# Altium footprint library IC_Packages.PcbLib: 10 footprints
Each footprint in its own frame and in the unit in brackets; x right, y up, seen from the top. Pads: shape width x height; smd on the part's side, far side on the other; paste and mask are expansions set on the pad; w line width, h text height; cw(c..) or ccw(c..) is an arc to the next point about the centre after c.
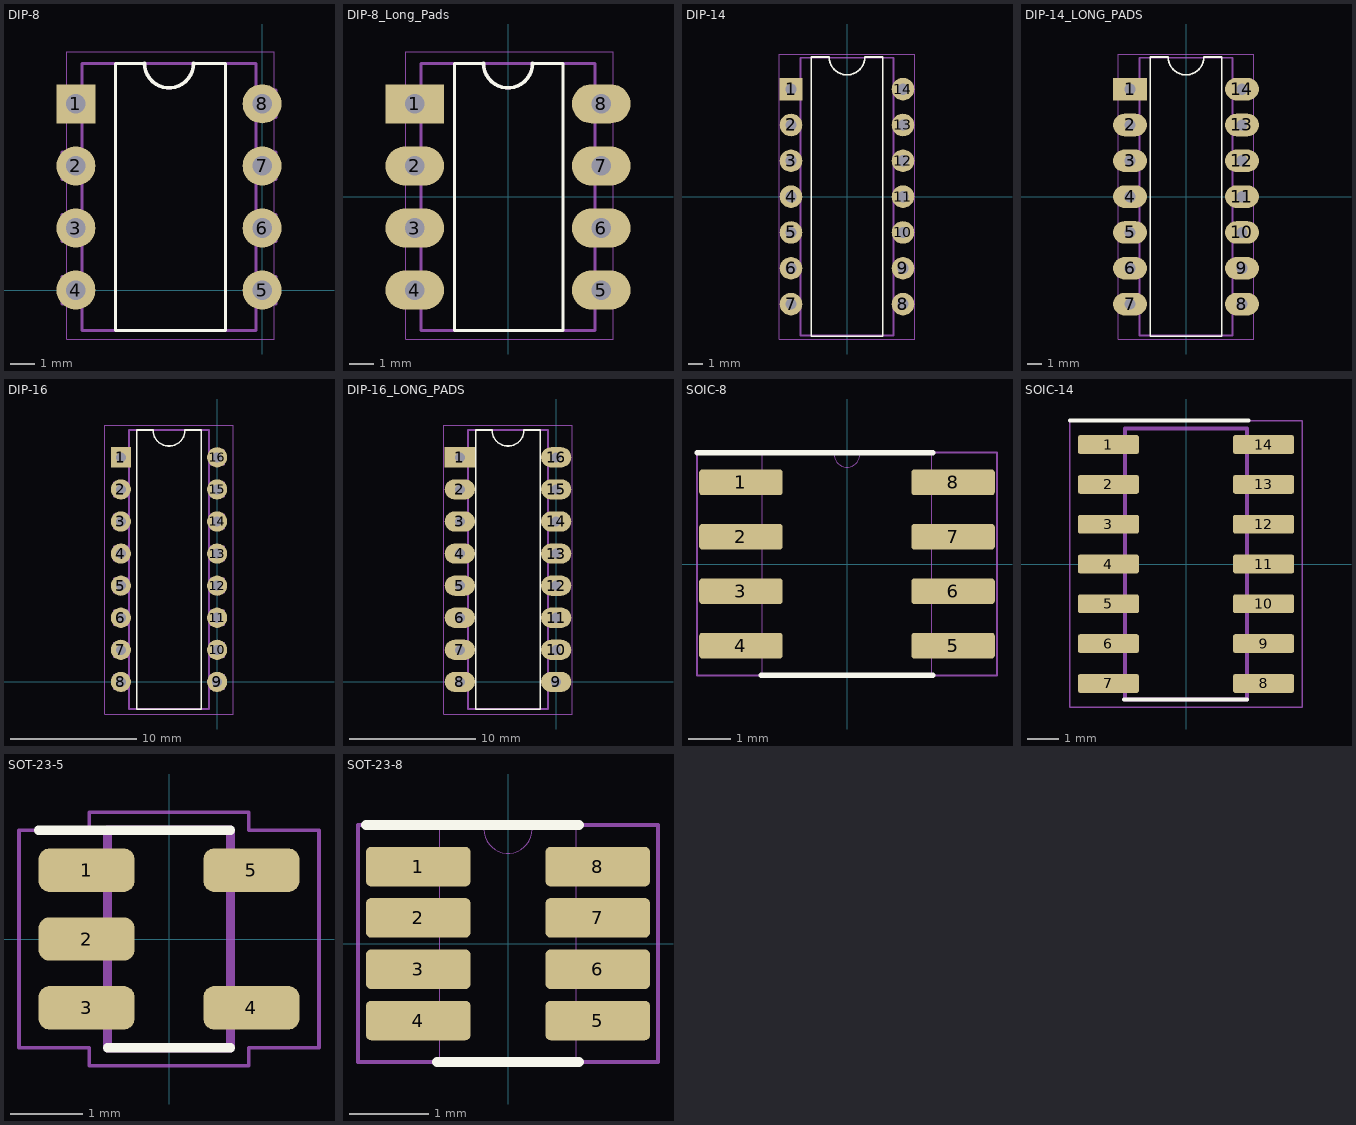
[diagram p0: the footprints below, top view; thin cyan lines are the x and y axes]

## DIP-8 [mm]
pads (8):
  rect 1.6x1.6 hole 0.8: 1(-7.62,7.62)
  round 1.6 hole 0.8: 2(-7.62,5.08) 3(-7.62,2.54) 4(-7.62,0) 5(0,0) 6(0,2.54) 7(0,5.08) 8(0,7.62)
Top Overlay:
  lines w0.127: -4.81,9.271 -6,9.271 -6,-1.651 -1.5,-1.651 -1.5,9.271 -2.81,9.271
  lines w0.152: -4.81,9.271 ccw(c-3.81,9.271) -2.81,9.271
Mechanical 13:
  lines w0.127: -4.81,9.271 ccw(c-3.81,9.271) -2.81,9.271 ; -8.179,-0.559 -7.366,-0.559 -7.366,0.559 -8.179,0.559 -8.179,-0.559 ; -8.179,1.981 -7.366,1.981 -7.366,3.099 -8.179,3.099 -8.179,1.981 ; -8.179,4.521 -7.366,4.521 -7.366,5.639 -8.179,5.639 -8.179,4.521 ; -8.179,7.061 -7.366,7.061 -7.366,8.179 -8.179,8.179 -8.179,7.061 ; -7.366,-1.651 -7.366,9.271 -4.115,9.271 -3.505,9.271 -0.254,9.271 -0.254,-1.651 -7.366,-1.651 ; -0.254,-0.559 0.559,-0.559 0.559,0.559 -0.254,0.559 -0.254,-0.559 ; -0.254,1.981 0.559,1.981 0.559,3.099 -0.254,3.099 -0.254,1.981 ; -0.254,4.521 0.559,4.521 0.559,5.639 -0.254,5.639 -0.254,4.521 ; -0.254,7.061 0.559,7.061 0.559,8.179 -0.254,8.179 -0.254,7.061
Border:
  lines w0.05: -8,-2 0.5,-2 0.5,9.75 -8,9.75 -8,-2
3D body "CircuitWorks-DIP8.step": height 4.19, standoff -2.67, extent -7.747,-1.905 0.127,9.525

## DIP-8_Long_Pads [mm]
pads (8):
  rect 2.4x1.6 hole 0.8: 1(-3.81,3.81)
  oval 2.4x1.6 hole 0.8: 2(-3.81,1.27) 3(-3.81,-1.27) 4(-3.81,-3.81) 5(3.81,-3.81) 6(3.81,-1.27) 7(3.81,1.27) 8(3.81,3.81)
Top Overlay:
  lines w0.127: -1,5.461 -2.19,5.461 -2.19,-5.461 2.25,-5.461 2.25,5.461 1,5.461
  lines w0.152: -1,5.461 ccw(c0,5.461) 1,5.461
Mechanical 13:
  lines w0.127: -1,5.461 ccw(c0,5.461) 1,5.461 ; -4.369,-4.369 -4.369,-3.251 -3.556,-3.251 -3.556,-4.369 -4.369,-4.369 ; -4.369,-1.829 -4.369,-0.711 -3.556,-0.711 -3.556,-1.829 -4.369,-1.829 ; -4.369,0.711 -4.369,1.829 -3.556,1.829 -3.556,0.711 -4.369,0.711 ; -4.369,3.251 -4.369,4.369 -3.556,4.369 -3.556,3.251 -4.369,3.251 ; -3.556,-5.461 3.556,-5.461 3.556,5.461 0.305,5.461 -0.305,5.461 -3.556,5.461 -3.556,-5.461 ; 3.556,-4.369 3.556,-3.251 4.369,-3.251 4.369,-4.369 3.556,-4.369 ; 3.556,-1.829 3.556,-0.711 4.369,-0.711 4.369,-1.829 3.556,-1.829 ; 3.556,0.711 3.556,1.829 4.369,1.829 4.369,0.711 3.556,0.711 ; 3.556,3.251 3.556,4.369 4.369,4.369 4.369,3.251 3.556,3.251
Border:
  lines w0.05: -4.19,-5.81 -4.19,5.94 4.31,5.94 4.31,-5.81 -4.19,-5.81
3D body "CircuitWorks-DIP8.step": height 4.19, standoff -2.67, extent -3.937,-5.715 3.937,5.715

## DIP-14 [mm]
pads (14):
  rect 1.6x1.6 hole 0.8: 1(-3.97,7.62)
  round 1.6 hole 0.8: 2(-3.97,5.08) 3(-3.97,2.54) 4(-3.97,0) 5(-3.97,-2.54) 6(-3.97,-5.08) 7(-3.97,-7.62) 8(3.97,-7.62) 9(3.97,-5.08) 10(3.97,-2.54) 11(3.97,0) 12(3.97,2.54) 13(3.97,5.08) 14(3.97,7.62)
Top Overlay:
  lines w0.127: -2.54,-9.906 2.54,-9.906 2.54,9.906 1.27,9.906 cw(c0,9.906) -1.27,9.906 -2.54,9.906 -2.54,-9.906
Mechanical 13:
  lines w0.127: -3.3,-9.845 -3.3,9.845 3.3,9.845 3.3,-9.845 -3.3,-9.845
Border:
  lines w0.05: -4.805,-10.095 4.805,-10.095 4.805,10.095 -4.805,10.095 -4.805,-10.095
3D body "CircuitWorks-DIP-14.step": height 3.51, standoff -3.47, extent -4,-9.525 4,9.525

## DIP-14_LONG_PADS [mm]
pads (14):
  rect 2.4x1.6 hole 0.8: 1(-3.97,7.62)
  oval 2.4x1.6 hole 0.8: 2(-3.97,5.08) 3(-3.97,2.54) 4(-3.97,0) 5(-3.97,-2.54) 6(-3.97,-5.08) 7(-3.97,-7.62) 8(3.97,-7.62) 9(3.97,-5.08) 10(3.97,-2.54) 11(3.97,0) 12(3.97,2.54) 13(3.97,5.08) 14(3.97,7.62)
Top Overlay:
  lines w0.127: -2.54,-9.906 2.54,-9.906 2.54,9.906 1.27,9.906 cw(c0,9.906) -1.27,9.906 -2.54,9.906 -2.54,-9.906
Mechanical 13:
  lines w0.127: -3.3,-9.845 -3.3,9.845 3.3,9.845 3.3,-9.845 -3.3,-9.845
Border:
  lines w0.05: -4.805,-10.095 4.805,-10.095 4.805,10.095 -4.805,10.095 -4.805,-10.095
3D body "CircuitWorks-DIP-14.step": height 3.51, standoff -3.47, extent -4,-9.525 4,9.525

## DIP-16 [mm]
pads (16):
  rect 1.6x1.6 hole 0.8: 1(-7.62,17.78)
  round 1.6 hole 0.8: 2(-7.62,15.24) 3(-7.62,12.7) 4(-7.62,10.16) 5(-7.62,7.62) 6(-7.62,5.08) 7(-7.62,2.54) 8(-7.62,0) 9(0,0) 10(0,2.54) 11(0,5.08) 12(0,7.62) 13(0,10.16) 14(0,12.7) 15(0,15.24) 16(0,17.78)
Top Overlay:
  lines w0.127: -6.35,-2.159 -1.27,-2.159 -1.27,18.923 -1.27,19.939 -2.54,19.939 cw(c-3.81,19.939) -5.08,19.939 -6.35,19.939 -6.35,19.101 -6.35,-2.159
Mechanical 13:
  lines w0.152: -8.179,-0.559 -8.179,0.559 -6.985,0.559 -6.985,-0.559 -8.179,-0.559 ; -8.179,1.981 -8.179,3.099 -6.985,3.099 -6.985,1.981 -8.179,1.981 ; -8.179,4.521 -8.179,5.639 -6.985,5.639 -6.985,4.521 -8.179,4.521 ; -8.179,7.061 -8.179,8.179 -6.985,8.179 -6.985,7.061 -8.179,7.061 ; -8.179,9.601 -8.179,10.719 -6.985,10.719 -6.985,9.601 -8.179,9.601 ; -8.179,12.141 -8.179,13.259 -6.985,13.259 -6.985,12.141 -8.179,12.141 ; -8.179,14.681 -8.179,15.799 -6.985,15.799 -6.985,14.681 -8.179,14.681 ; -8.179,17.221 -8.179,18.339 -6.985,18.339 -6.985,17.221 -8.179,17.221 ; -6.985,-2.159 -0.635,-2.159 -0.635,19.939 -3.505,19.939 -4.115,19.939 -6.985,19.939 -6.985,-2.159 ; -0.635,-0.559 -0.635,0.559 0.559,0.559 0.559,-0.559 -0.635,-0.559 ; -0.635,1.981 -0.635,3.099 0.559,3.099 0.559,1.981 -0.635,1.981 ; -0.635,4.521 -0.635,5.639 0.559,5.639 0.559,4.521 -0.635,4.521 ; -0.635,7.061 -0.635,8.179 0.559,8.179 0.559,7.061 -0.635,7.061 ; -0.635,9.601 -0.635,10.719 0.559,10.719 0.559,9.601 -0.635,9.601 ; -0.635,12.141 -0.635,13.259 0.559,13.259 0.559,12.141 -0.635,12.141 ; -0.635,14.681 -0.635,15.799 0.559,15.799 0.559,14.681 -0.635,14.681 ; -0.635,17.221 -0.635,18.339 0.559,18.339 0.559,17.221 -0.635,17.221
Border:
  lines w0.05: -8.89,-2.54 -8.89,20.32 1.27,20.32 1.27,-2.54 -8.89,-2.54
3D body "CircuitWorks-DIP16.step": height 4.19, standoff -2.57, extent -7.747,-1.905 0.127,19.685

## DIP-16_LONG_PADS [mm]
pads (16):
  rect 2.4x1.6 hole 0.8: 1(-7.62,17.78)
  oval 2.4x1.6 hole 0.8: 2(-7.62,15.24) 3(-7.62,12.7) 4(-7.62,10.16) 5(-7.62,7.62) 6(-7.62,5.08) 7(-7.62,2.54) 8(-7.62,0) 9(0,0) 10(0,2.54) 11(0,5.08) 12(0,7.62) 13(0,10.16) 14(0,12.7) 15(0,15.24) 16(0,17.78)
Top Overlay:
  lines w0.127: -6.35,-2.159 -6.35,19.101 -6.35,19.939 -5.08,19.939 ccw(c-3.81,19.939) -2.54,19.939 -1.27,19.939 -1.27,18.923 -1.27,-2.159 -6.35,-2.159
Mechanical 13:
  lines w0.152: -8.179,-0.559 -6.985,-0.559 -6.985,0.559 -8.179,0.559 -8.179,-0.559 ; -8.179,1.981 -6.985,1.981 -6.985,3.099 -8.179,3.099 -8.179,1.981 ; -8.179,4.521 -6.985,4.521 -6.985,5.639 -8.179,5.639 -8.179,4.521 ; -8.179,7.061 -6.985,7.061 -6.985,8.179 -8.179,8.179 -8.179,7.061 ; -8.179,9.601 -6.985,9.601 -6.985,10.719 -8.179,10.719 -8.179,9.601 ; -8.179,12.141 -6.985,12.141 -6.985,13.259 -8.179,13.259 -8.179,12.141 ; -8.179,14.681 -6.985,14.681 -6.985,15.799 -8.179,15.799 -8.179,14.681 ; -8.179,17.221 -6.985,17.221 -6.985,18.339 -8.179,18.339 -8.179,17.221 ; -6.985,-2.159 -6.985,19.939 -4.115,19.939 -3.505,19.939 -0.635,19.939 -0.635,-2.159 -6.985,-2.159 ; -0.635,-0.559 0.559,-0.559 0.559,0.559 -0.635,0.559 -0.635,-0.559 ; -0.635,1.981 0.559,1.981 0.559,3.099 -0.635,3.099 -0.635,1.981 ; -0.635,4.521 0.559,4.521 0.559,5.639 -0.635,5.639 -0.635,4.521 ; -0.635,7.061 0.559,7.061 0.559,8.179 -0.635,8.179 -0.635,7.061 ; -0.635,9.601 0.559,9.601 0.559,10.719 -0.635,10.719 -0.635,9.601 ; -0.635,12.141 0.559,12.141 0.559,13.259 -0.635,13.259 -0.635,12.141 ; -0.635,14.681 0.559,14.681 0.559,15.799 -0.635,15.799 -0.635,14.681 ; -0.635,17.221 0.559,17.221 0.559,18.339 -0.635,18.339 -0.635,17.221
Border:
  lines w0.05: -8.89,-2.54 1.27,-2.54 1.27,20.32 -8.89,20.32 -8.89,-2.54
3D body "CircuitWorks-DIP16.step": height 4.19, standoff -2.57, extent -7.747,-1.905 0.127,19.685

## SOIC-8 [mm]
pads (8):
  rrect25% 1.95x0.6 smd: 1(-2.475,1.905) 2(-2.475,0.635) 3(-2.475,-0.635) 4(-2.475,-1.905) 5(2.475,-1.905) 6(2.475,-0.635) 7(2.475,0.635) 8(2.475,1.905)
Top Overlay:
  lines w0.127: -3.5,2.6 2,2.6 ; -2,-2.6 2,-2.6
Mechanical 13:
  lines w0: -0.305,2.565 ccw(c0,2.565) 0.305,2.565 ; -0.305,2.565 0.305,2.565 ; -0.305,2.565 -1.981,2.565 -1.981,-2.565 1.981,-2.565 1.981,2.565 0.305,2.565 ; -3.15,-2.134 -3.15,-1.676 -1.981,-1.676 -1.981,-2.134 -3.15,-2.134 ; -3.15,-0.864 -3.15,-0.406 -1.981,-0.406 -1.981,-0.864 -3.15,-0.864 ; -3.15,0.406 -3.15,0.864 -1.981,0.864 -1.981,0.406 -3.15,0.406 ; -3.15,1.676 -3.15,2.134 -1.981,2.134 -1.981,1.676 -3.15,1.676 ; 1.981,-2.134 1.981,-1.676 3.15,-1.676 3.15,-2.134 1.981,-2.134 ; 1.981,-0.864 1.981,-0.406 3.15,-0.406 3.15,-0.864 1.981,-0.864 ; 1.981,0.406 1.981,0.864 3.15,0.864 3.15,0.406 1.981,0.406 ; 1.981,1.676 1.981,2.134 3.15,2.134 3.15,1.676 1.981,1.676
Border:
  lines w0.05: -3.5,-2.6 3.5,-2.6 3.5,2.6 -3.5,2.6 -3.5,-2.6
3D body "User Library-SOIC-8-1.step": height 1.75, standoff 0, extent -3,-2.45 3,2.45

## SOIC-14 [mm]
pads (14):
  rrect25% 1.95x0.6 smd: 1(-2.475,3.81) 2(-2.475,2.54) 3(-2.475,1.27) 4(-2.475,0) 5(-2.475,-1.27) 6(-2.475,-2.54) 7(-2.475,-3.81) 8(2.475,-3.81) 9(2.475,-2.54) 10(2.475,-1.27) 11(2.475,0) 12(2.475,1.27) 13(2.475,2.54) 14(2.475,3.81)
Top Overlay:
  lines w0.127: -3.7,4.575 2,4.575 ; -1.975,-4.325 1.95,-4.325
Mechanical 13:
  lines w0.127: -1.95,-4.325 -1.95,4.325 1.95,4.325 1.95,-4.325 -1.95,-4.325
Border:
  lines w0.05: -3.71,-4.575 -3.71,4.575 3.71,4.575 3.71,-4.575 -3.71,-4.575
3D body "lm324amx.stp": height 1.6, standoff 0, extent -3.1,-4.325 2.9,4.275

## SOT-23-5 [mm]
pads (5):
  rrect50% 1.325x0.6 smd: 1(-1.137,0.95) 2(-1.137,0) 3(-1.137,-0.95) 4(1.137,-0.95) 5(1.137,0.95)
Top Overlay:
  lines w0.127: -1.8,1.5 0.85,1.5 ; -0.85,-1.5 0.85,-1.5
Mechanical 13:
  lines w0.127: -0.85,-1.5 0.85,-1.5 0.85,1.5 -0.85,1.5 -0.85,-1.5
Border:
  lines w0.05: -2.07,-1.5 -1.1,-1.5 -1.1,-1.75 1.1,-1.75 1.1,-1.5 2.07,-1.5 2.07,1.5 1.1,1.5 1.1,1.75 -1.1,1.75 -1.1,1.5 -2.07,1.5 -2.07,-1.5
3D body "User Library-tsot-23-5.step": height 0.95, standoff -0.03, extent -1.4,-1.45 1.4,1.45

## SOT-23-8 [mm]
pads (8):
  rrect25% 1.325x0.5 smd: 1(-1.137,0.975) 2(-1.137,0.325) 3(-1.137,-0.325) 4(-1.137,-0.975) 5(1.137,-0.975) 6(1.137,-0.325) 7(1.137,0.325) 8(1.137,0.975)
Top Overlay:
  lines w0.127: -1.8,1.5 0.9,1.5 ; -0.9,-1.5 0.9,-1.5
Mechanical 13:
  lines w0: -0.864,-1.143 -0.864,-1.448 0.864,-1.448 0.864,-1.143 ; -0.864,-1.143 -0.864,-0.787 ; -0.864,-1.143 -1.397,-1.143 -1.397,-0.787 -0.864,-0.787 ; -0.864,-0.787 -0.864,-0.508 ; -0.864,-0.508 -0.864,-0.152 ; -0.864,-0.508 -1.397,-0.508 -1.397,-0.152 -0.864,-0.152 ; -0.864,-0.152 -0.864,0.152 ; -0.864,0.152 -0.864,0.508 ; -0.864,0.152 -1.397,0.152 -1.397,0.508 -0.864,0.508 ; -0.864,0.508 -0.864,0.787 ; -0.864,0.787 -0.864,1.143 ; -0.864,0.787 -1.397,0.787 -1.397,1.143 -0.864,1.143 ; -0.864,1.143 -0.864,1.448 -0.305,1.448 ; -0.305,1.448 ccw(c0,1.448) 0.305,1.448 ; -0.305,1.448 0.305,1.448 ; 0.305,1.448 0.864,1.448 0.864,1.143 ; 0.864,-1.143 0.864,-0.787 ; 0.864,-1.143 1.397,-1.143 1.397,-0.787 0.864,-0.787 ; 0.864,-0.787 0.864,-0.508 ; 0.864,-0.508 0.864,-0.152 ; 0.864,-0.508 1.397,-0.508 1.397,-0.152 0.864,-0.152 ; 0.864,-0.152 0.864,0.152 ; 0.864,0.152 0.864,0.508 ; 0.864,0.152 1.397,0.152 1.397,0.508 0.864,0.508 ; 0.864,0.508 0.864,0.787 ; 0.864,0.787 0.864,1.143 ; 0.864,0.787 1.397,0.787 1.397,1.143 0.864,1.143
Border:
  lines w0.05: -1.9,-1.5 1.9,-1.5 1.9,1.5 -1.9,1.5 -1.9,-1.5
3D body "User Library-sot238.step": height 1.2, standoff 0, extent -1.4,-1.47 1.4,1.47